# Altium schematic symbol library pag7936.SchLib: 1 symbol
Pins are listed as number, name and electrical type; pins without a type are passive.

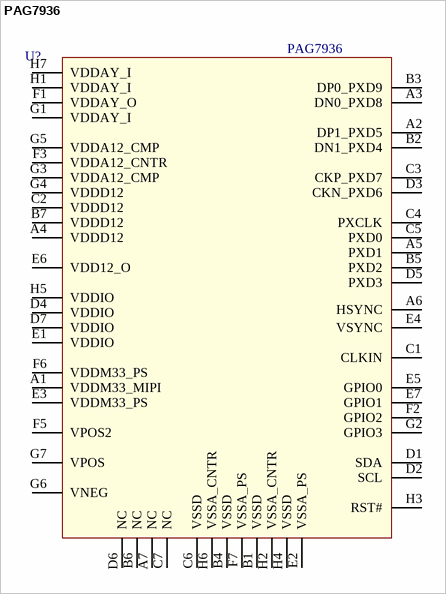
[diagram p0: symbol PAG7936]

## PAG7936
designator U?
MF: PixArt; MPN: PAG7936
footprint PAG7936 (Footprint not found)
pins: A1 VDDM33_MIPI, A2 DP1_PXD5, A3 DN0_PXD8, A4 VDDD12, A5 PXD1, A6 HSYNC, A7 NC, B1 VSSD, B2 DN1_PXD4, B3 DP0_PXD9, B4 VSSD, B5 PXD2, B6 NC, B7 VDDD12, C1 CLKIN, C2 VDDD12, C3 CKP_PXD7, C4 PXCLK, C5 PXD0, C6 VSSD, C7 NC, D1 SDA, D2 SCL, D3 CKN_PXD6, D4 VDDIO, D5 PXD3, D6 NC, D7 VDDIO, E1 VDDIO, E2 VSSA_PS, E3 VDDM33_PS, E4 VSYNC, E5 GPIO0, E6 VDD12_O, E7 GPIO1, F1 VDDAY_O, F2 GPIO2, F3 VDDA12_CNTR, F5 VPOS2, F6 VDDM33_PS, F7 VSSA_PS, G1 VDDAY_I, G2 GPIO3, G3 VDDA12_CMP, G4 VDDD12, G5 VDDA12_CMP, G6 VNEG, G7 VPOS, H1 VDDAY_I, H2 VSSA_CNTR, H3 RST#, H4 VSSD, H5 VDDIO, H6 VSSA_CNTR, H7 VDDAY_I